# Altium schematic symbol library Анализатор .034 -лист 3.SchLib: 2 symbols
Pins are listed as number, name and electrical type; pins without a type are passive.

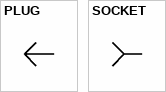
[diagram p0: symbols PLUG to SOCKET]

## PLUG
designator U?  (value not drawn)
Value: *
pins: 1

## SOCKET
designator U?  (value not drawn)
Value: *
pins: 1